# Altium schematic symbol library HTMD-PREAMP2.SCHLIB: 38 symbols
Pins are listed as number, name and electrical type; pins without a type are passive.

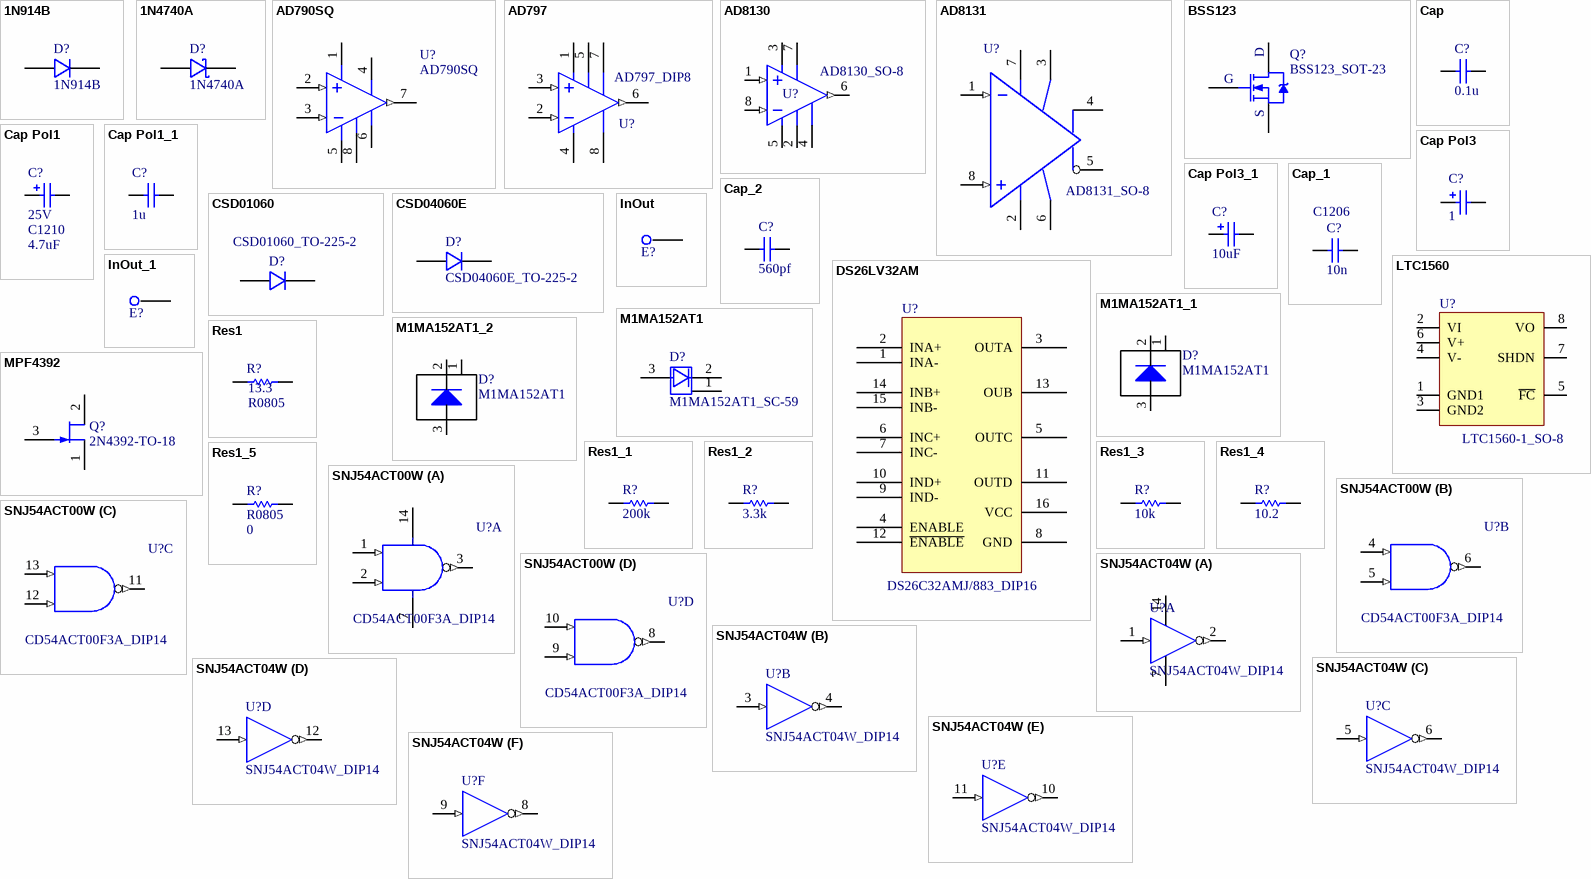
[diagram p0: symbols 1N914B to SNJ54ACT04W]

## 1N914B
designator D?
footprint DO-35
pins: 1 A, 2 K
2 alternate drawings of the same symbol

## 1N4740A
designator D?
Schottky Rectifier
footprint DO-41
pins: 1 A, 2 K
2 alternate drawings of the same symbol

## AD790SQ
designator U?
fast,precision comparator; Published: 8-Jun-2000; LatestRevisionDate: 04-Mar-2005; LatestRevisionNote: Stylized 3D Model Added.; DatasheetVersion: 1992; PackageVersion: 1998; PackageReference: Q-8; Publisher: Altium Limited; PackageDescription: DIP; 8 Leads; Row Spacing 7.62 mm; Pitch 2.54 mm; ComponentLink1Description: Manufacturer Link; ComponentLink1URL: http://www.analog.com/
footprint DIP8
pins: 1 +Vs (power), 2 IN+ (in), 3 IN- (in), 4 -Vs (power), 5 ~{latch}, 6 GND (power), 7 OUT (out), 8 Vlogic

## AD797
designator U?, comment AD797_DIP8
footprint DIP8
pins: 1 (power), 2 -IN (in), 3 +IN (in), 4 -VS (power), 5 NC (power), 6 OUTPUT (out), 7 NC (power), 8 NEU (power)
2 alternate drawings of the same symbol

## AD8130
designator U?, comment AD8130_SO-8
AD8130: *
footprint SO-8
pins: 1 +IN (in), 2 -VS (power), 3 ~{PD} (power), 4 REF (power), 5 FB (power), 6 OUTPUT (out), 7 +VS (power), 8 -IN (in)
2 alternate drawings of the same symbol

## AD8131
designator U?, comment AD8131_SO-8
footprint SO-8
pins: 1 Din- (in), 2 Vcom, 3 V+ (power), 4 OUT+, 5 OUT-, 6 V- (power), 7 NC, 8 Din+ (in)
2 alternate drawings of the same symbol

## BSS123
designator Q?, comment BSS123_SOT-23
BSS123
footprint SOT-23
pins: 1 G, 2 S, 3 D
2 alternate drawings of the same symbol

## Cap
designator C?  value 0.1u  (hidden comment: Cap)
Capacitor; Published: 8-Jun-2000; LatestRevisionDate: 17-Jul-2002; LatestRevisionNote: Re-released for DXP Platform.; PackageReference: C0805; Publisher: Altium Limited
footprint C0805
pins: 1, 2
2 alternate drawings of the same symbol

## Cap Pol1
designator C?, comment 25V  value 4.7uF  PackageReference: C1210
Polarized Capacitor (Radial); Published: 8-Jun-2000; LatestRevisionDate: 17-Jul-2002; LatestRevisionNote: Re-released for DXP Platform.; Publisher: Altium Limited
footprint 595D
pins: 1, 2
2 alternate drawings of the same symbol

## Cap Pol1_1
designator C?, comment value 1u  (hidden comment: Cap Pol3)
Polarized Capacitor (Radial); Published: 8-Jun-2000; LatestRevisionDate: 17-Jul-2002; LatestRevisionNote: Re-released for DXP Platform.; PackageReference: RB7.6-15; Publisher: Altium Limited
footprint C1206
pins: 1, 2
2 alternate drawings of the same symbol

## Cap Pol3
designator C?  value 1  (hidden comment: Cap Pol3)
Polarized Capacitor (Surface Mount); Published: 8-Jun-2000; LatestRevisionDate: 17-Jul-2002; LatestRevisionNote: Re-released for DXP Platform.; PackageReference: C0805; Publisher: Altium Limited
footprint C1206
pins: 1, 2
1 alternate drawing of the same symbol

## Cap Pol3_1
designator C?, comment value 10uF  (hidden comment: Cap Pol3)
Polarized Capacitor (Surface Mount); Published: 8-Jun-2000; LatestRevisionDate: 17-Jul-2002; LatestRevisionNote: Re-released for DXP Platform.; PackageReference: C0805; Publisher: Altium Limited
footprint 7343
pins: 1, 2
1 alternate drawing of the same symbol

## Cap_1
designator C?, comment value 10n  PackageReference: C1206  (hidden comment: Cap)
Capacitor; Published: 8-Jun-2000; LatestRevisionDate: 17-Jul-2002; LatestRevisionNote: Re-released for DXP Platform.; Publisher: Altium Limited
footprint 1206
pins: 1, 2
2 alternate drawings of the same symbol

## Cap_2
designator C?, comment value 560pf  (hidden comment: Cap)
Capacitor; Published: 8-Jun-2000; LatestRevisionDate: 17-Jul-2002; LatestRevisionNote: Re-released for DXP Platform.; PackageReference: RAD-0.3; Publisher: Altium Limited
footprint C0805
pins: 1, 2

## CSD01060
designator D?, comment CSD01060_TO-225-2
CSD01060
footprint TO-225-2
pins: 1 K, 2 A
2 alternate drawings of the same symbol

## CSD04060E
designator D?, comment CSD04060E_TO-225-2
CSD04060E
footprint TO-225-2
pins: 1 K, 2 A
2 alternate drawings of the same symbol

## DS26LV32AM
designator U?, comment DS26C32AMJ/883_DIP16
footprint DIP16
pins: 1 INA-, 2 INA+, 3 OUTA, 4 ENABLE, 5 OUTC, 6 INC+, 7 INC-, 8 GND, 9 IND-, 10 IND+, 11 OUTD, 12 ~{ENABLE}, 13 OUB, 14 INB+, 15 INB-, 16 VCC
2 alternate drawings of the same symbol

## InOut
designator E?  (value not drawn)
footprint TermSignal
pins: 1 NC
2 alternate drawings of the same symbol

## InOut_1
designator E?, comment InOut  (value not drawn)
footprint TermPower
pins: 1 NC
2 alternate drawings of the same symbol

## LTC1560
designator U?, comment LTC1560-1_SO-8
footprint SO-8
pins: 1 GND1, 2 VI, 3 GND2, 4 V-, 5 ~{FC}, 6 V+, 7 SHDN, 8 VO
2 alternate drawings of the same symbol

## M1MA152AT1
designator D?, comment M1MA152AT1_SC-59
footprint SC-59
pins: 1 NC, 2 K, 3 A
2 alternate drawings of the same symbol

## M1MA152AT1_1
designator D?, comment M1MA152AT1
single silicon switching diodes; Published: 8-Jun-2000; LatestRevisionDate: 17-Jul-2002; LatestRevisionNote: Re-released for DXP Platform.; PackageDocument: Sep-1996; PackageReference: SMC; Publisher: Altium Limited; Code_JEDEC: DO-214-AB
footprint SC-59
pins: 1, 2, 3 A
2 alternate drawings of the same symbol

## M1MA152AT1_2
designator D?, comment M1MA152AT1
single silicon switching diodes; Published: 8-Jun-2000; LatestRevisionDate: 17-Jul-2002; LatestRevisionNote: Re-released for DXP Platform.; PackageDocument: Sep-1996; PackageReference: SMC; Publisher: Altium Limited; Code_JEDEC: DO-214-AB
footprint SC-59
pins: 1, 2, 3 A
2 alternate drawings of the same symbol

## MPF4392
designator Q?, comment 2N4392-TO-18
footprint TO-18
pins: 1 D, 2 S, 3 G
2 alternate drawings of the same symbol

## Res1
designator R?  value 13.3  PackageReference: R0805  (hidden comment: Res1)
Resistor; Published: 8-Jun-2000; LatestRevisionDate: 17-Jul-2002; LatestRevisionNote: Re-released for DXP Platform.; Publisher: Altium Limited
footprint R0805
pins: 1, 2
2 alternate drawings of the same symbol

## Res1_1
designator R?, comment 200k
Resistor; Published: 8-Jun-2000; LatestRevisionDate: 17-Jul-2002; LatestRevisionNote: Re-released for DXP Platform.; PackageReference: AXIAL-0.3; Publisher: Altium Limited; Value: 200k
footprint MG680
pins: 1, 2
2 alternate drawings of the same symbol

## Res1_2
designator R?, comment 3.3k
Resistor; Published: 8-Jun-2000; LatestRevisionDate: 17-Jul-2002; LatestRevisionNote: Re-released for DXP Platform.; PackageReference: AXIAL-0.3; Publisher: Altium Limited; Value: 3.3k
footprint 2010
pins: 1, 2
2 alternate drawings of the same symbol

## Res1_3
designator R?, comment 10k
Resistor; Published: 8-Jun-2000; LatestRevisionDate: 17-Jul-2002; LatestRevisionNote: Re-released for DXP Platform.; PackageReference: AXIAL-0.3; Publisher: Altium Limited; Value: 10k
footprint R1206
pins: 1, 2
2 alternate drawings of the same symbol

## Res1_4
designator R?, comment value 10.2  (hidden comment: Res1)
Resistor; Published: 8-Jun-2000; LatestRevisionDate: 17-Jul-2002; LatestRevisionNote: Re-released for DXP Platform.; PackageReference: AXIAL-0.3; Publisher: Altium Limited
footprint R0805
pins: 1, 2
2 alternate drawings of the same symbol

## Res1_5
designator R?, comment R0805  value 0
Resistor; Published: 8-Jun-2000; LatestRevisionDate: 17-Jul-2002; LatestRevisionNote: Re-released for DXP Platform.; PackageReference: AXIAL-0.3; Publisher: Altium Limited
footprint R0805
pins: 1, 2

## SNJ54ACT00W
designator U?, comment CD54ACT00F3A_DIP14
footprint DIP14
part A pins: 1 A (in), 2 B (in), 3 ~{O} (out), 7 GND (power), 14 Vcc (power)
part B pins: 4 A (in), 5 B (in), 6 ~{O} (out)
part C pins: 11 ~{O} (out), 12 B (in), 13 A (in)
part D pins: 8 ~{O} (out), 9 B (in), 10 A (in)
2 alternate drawings of the same symbol

## SNJ54ACT04W
designator U?, comment SNJ54ACT04W_DIP14
Hex Inverter
footprint DIP14
part A pins: 1 A (in), 2 ~{O} (out), 7 GND (power), 14 Vcc (power)
part B pins: 3 A (in), 4 ~{O} (out)
part C pins: 5 A (in), 6 ~{O} (out)
part D pins: 12 ~{O} (out), 13 A (in)
part E pins: 10 ~{O} (out), 11 A (in)
part F pins: 8 ~{O} (out), 9 A (in)
2 alternate drawings of the same symbol

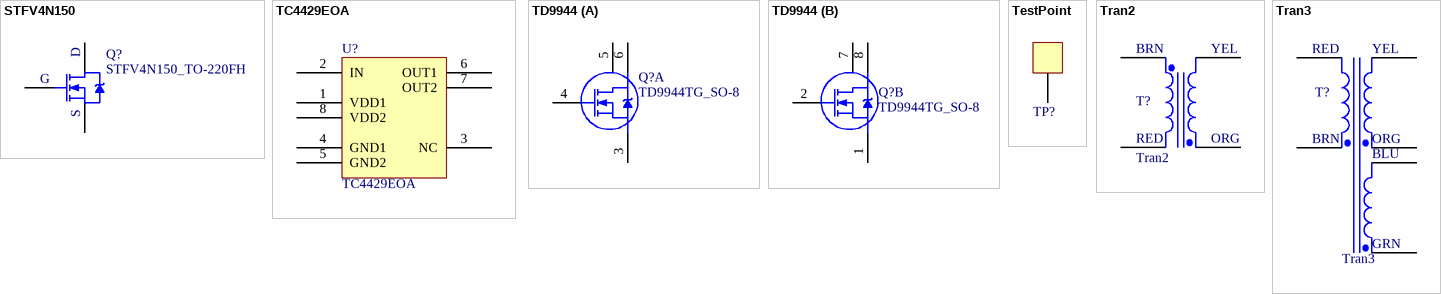
[diagram p1: symbols STFV4N150 to Tran3]

## STFV4N150
designator Q?, comment STFV4N150_TO-220FH
footprint TO-220FH
pins: 1 G, 2 D, 3 S
2 alternate drawings of the same symbol

## TC4429EOA
designator U?
footprint SO-8
pins: 1 VDD1, 2 IN, 3 NC, 4 GND1, 5 GND2, 6 OUT1, 7 OUT2, 8 VDD2
2 alternate drawings of the same symbol

## TD9944
designator Q?, comment TD9944TG_SO-8
footprint SO-8
part A pins: 3 S, 4 G, 5 D, 6 D
part B pins: 1 S, 2 G, 7 D, 8 D
2 alternate drawings of the same symbol

## TestPoint
designator TP?  (value not drawn)
footprint test_small
pins: 1 NC
2 alternate drawings of the same symbol

## Tran2
designator T?
footprint Tran2
pins: 1 Sec+, 2 Sec-, 3 Pri-, 4 Pri-
2 alternate drawings of the same symbol
text: BRN; YEL; RED; ORG

## Tran3
designator T?
footprint Tran3
pins: 1 Pri-, 2 Sec2+, 3 Sec2-, 4 Sec1+, 5 Sec1-, 6 Pri+
2 alternate drawings of the same symbol
text: RED; YEL; BRN; ORG; BLU; GRN